# Altium schematic symbol library SCH - DRIVER - LED - TI TLC5945_PWP_28.SchLib: 1 symbol
Pins are listed as number, name and electrical type; pins without a type are passive.

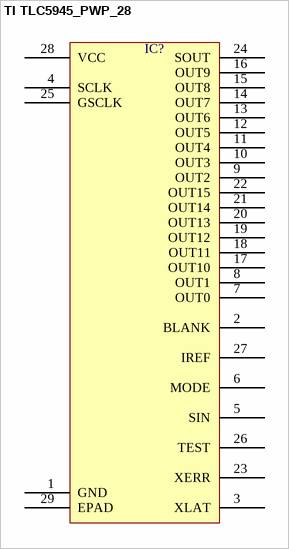
[diagram p0: symbol TI TLC5945_PWP_28]

## TI TLC5945_PWP_28
designator IC?  (value not drawn)
pins: 1 GND, 2 BLANK, 3 XLAT, 4 SCLK, 5 SIN, 6 MODE, 7 OUT0, 8 OUT1, 9 OUT2, 10 OUT3, 11 OUT4, 12 OUT5, 13 OUT6, 14 OUT7, 15 OUT8, 16 OUT9, 17 OUT10, 18 OUT11, 19 OUT12, 20 OUT13, 21 OUT14, 22 OUT15, 23 XERR, 24 SOUT, 25 GSCLK, 26 TEST, 27 IREF, 28 VCC, 29 EPAD